# EAGLE library part AP6503 (library dword1511-pmic-dcdc)
340kHz 23V 3A synchronous DC-DC buck converter
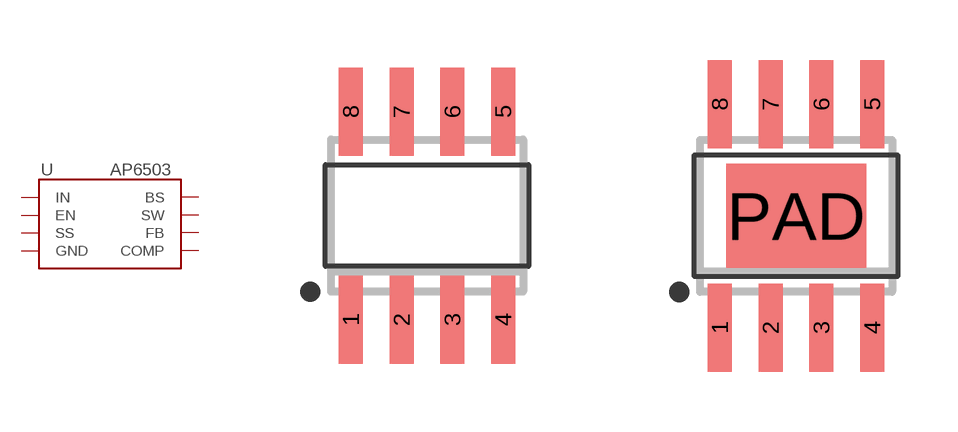
[diagram p31: symbol with the pads of SOIC-8; footprints SOIC-8, SOIC-8P]

Designator prefix U

## AP6503S  [SOIC-8]
1  BS  out
2  IN  pwr
3  SW  out
4  GND  pwr
5  FB  in
6  COMP  out
7  EN  in
8  SS  out

## AP6503SP  [SOIC-8P]
Pads as for SOIC-8

## Footprint SOIC-8 (pad centres in mm)
smd 0.6 x 2.2: 1 -1.905,-2.6; 2 -0.635,-2.6; 3 0.635,-2.6; 4 1.905,-2.6; 5 1.905,2.6; 6 0.635,2.6; 7 -0.635,2.6; 8 -1.905,2.6

## Footprint SOIC-8P (pad centres in mm)
smd 0.6 x 2.2: 1 -1.905,-2.794; 2 -0.635,-2.794; 3 0.635,-2.794; 4 1.905,-2.794; 5 1.905,2.794; 6 0.635,2.794; 7 -0.635,2.794; 8 -1.905,2.794
smd 3.5 x 2.6: PAD 0,0